# Altium footprint library SnapEDApcb.PcbLib: 1 footprints
Each footprint in its own frame and in the unit in brackets; x right, y up, seen from the top. Pads: shape width x height; smd on the part's side, far side on the other; paste and mask are expansions set on the pad; w line width, h text height; cw(c..) or ccw(c..) is an arc to the next point about the centre after c.
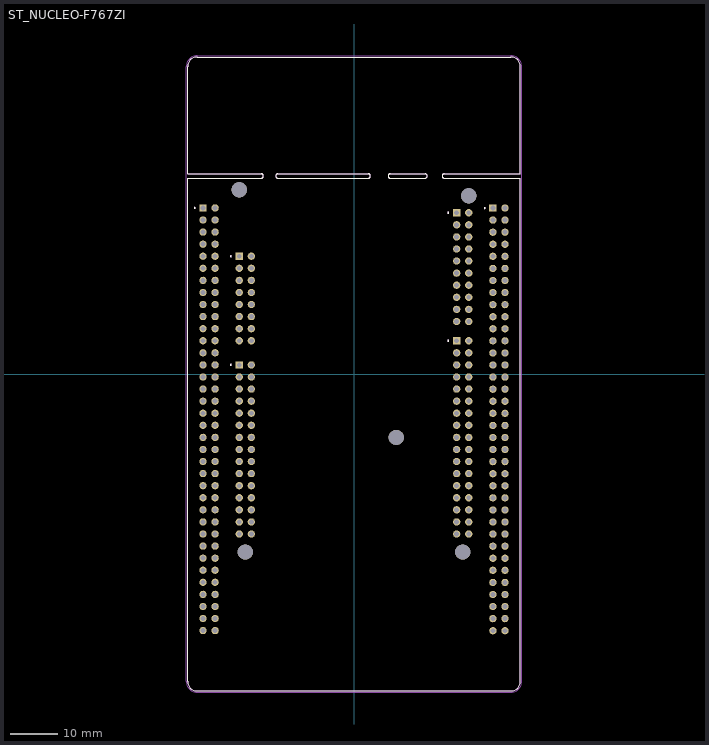
[diagram p0: the footprint, top view; thin cyan lines are the x and y axes]

## ST_NUCLEO-F767ZI [mm]
pads (249):
  rect 1.53x1.53 hole 1.02: CN7_1(21.59,33.914) CN8_1(-24.13,24.77) CN9_1(-24.13,1.91) CN10_1(21.59,6.99) CN11_1(-31.75,34.93) CN12_1(29.21,34.91)
  round 1.53 hole 1.02: CN7_2(24.13,33.914) CN7_3(21.59,31.374) CN7_4(24.13,31.374) CN7_5(21.59,28.834) CN7_6(24.13,28.834) CN7_7(21.59,26.294) CN7_8(24.13,26.294) CN7_9(21.59,23.754) CN7_10(24.13,23.754) CN7_11(21.59,21.214) CN7_12(24.13,21.214) CN7_13(21.59,18.674) CN7_14(24.13,18.674) CN7_15(21.59,16.134) CN7_16(24.13,16.134) CN7_17(21.59,13.594) CN7_18(24.13,13.594) CN7_19(21.59,11.054) CN7_20(24.13,11.054) CN8_2(-21.59,24.77) CN8_3(-24.13,22.23) CN8_4(-21.59,22.23) CN8_5(-24.13,19.69) CN8_6(-21.59,19.69) CN8_7(-24.13,17.15) CN8_8(-21.59,17.15) CN8_9(-24.13,14.61) CN8_10(-21.59,14.61) CN8_11(-24.13,12.07) CN8_12(-21.59,12.07) CN8_13(-24.13,9.53) CN8_14(-21.59,9.53) CN8_15(-24.13,6.99) CN8_16(-21.59,6.99) CN9_2(-21.59,1.91) CN9_3(-24.13,-0.63) CN9_4(-21.59,-0.63) CN9_5(-24.13,-3.17) CN9_6(-21.59,-3.17) CN9_7(-24.13,-5.71) CN9_8(-21.59,-5.71) CN9_9(-24.13,-8.25) CN9_10(-21.59,-8.25) CN9_11(-24.13,-10.79) CN9_12(-21.59,-10.79) CN9_13(-24.13,-13.33) CN9_14(-21.59,-13.33) CN9_15(-24.13,-15.87) CN9_16(-21.59,-15.87) CN9_17(-24.13,-18.41) CN9_18(-21.59,-18.41) CN9_19(-24.13,-20.95) CN9_20(-21.59,-20.95) CN9_21(-24.13,-23.49) CN9_22(-21.59,-23.49) CN9_23(-24.13,-26.03) CN9_24(-21.59,-26.03) CN9_25(-24.13,-28.57) CN9_26(-21.59,-28.57) CN9_27(-24.13,-31.11) CN9_28(-21.59,-31.11) CN9_29(-24.13,-33.65) CN9_30(-21.59,-33.65) CN10_2(24.13,6.99) CN10_3(21.59,4.45) CN10_4(24.13,4.45) CN10_5(21.59,1.91) CN10_6(24.13,1.91) CN10_7(21.59,-0.63) CN10_8(24.13,-0.63) CN10_9(21.59,-3.17) CN10_10(24.13,-3.17) CN10_11(21.59,-5.71) CN10_12(24.13,-5.71) CN10_13(21.59,-8.25) CN10_14(24.13,-8.25) CN10_15(21.59,-10.79) CN10_16(24.13,-10.79) CN10_17(21.59,-13.33) CN10_18(24.13,-13.33) CN10_19(21.59,-15.87) CN10_20(24.13,-15.87) CN10_21(21.59,-18.41) CN10_22(24.13,-18.41) CN10_23(21.59,-20.95) CN10_24(24.13,-20.95) CN10_25(21.59,-23.49) CN10_26(24.13,-23.49) CN10_27(21.59,-26.03) CN10_28(24.13,-26.03) CN10_29(21.59,-28.57) CN10_30(24.13,-28.57) CN10_31(21.59,-31.11) CN10_32(24.13,-31.11) CN10_33(21.59,-33.65) CN10_34(24.13,-33.65) CN11_2(-29.21,34.93) CN11_3(-31.75,32.39) CN11_4(-29.21,32.39) CN11_5(-31.75,29.85) CN11_6(-29.21,29.85) CN11_7(-31.75,27.31) CN11_8(-29.21,27.31) CN11_9(-31.75,24.77) CN11_10(-29.21,24.77) CN11_11(-31.75,22.23) CN11_12(-29.21,22.23) CN11_13(-31.75,19.69) CN11_14(-29.21,19.69) CN11_15(-31.75,17.15) CN11_16(-29.21,17.15) CN11_17(-31.75,14.61) CN11_18(-29.21,14.61) CN11_19(-31.75,12.07) CN11_20(-29.21,12.07) CN11_21(-31.75,9.53) CN11_22(-29.21,9.53) CN11_23(-31.75,6.99) CN11_24(-29.21,6.99) CN11_25(-31.75,4.45) CN11_26(-29.21,4.45) CN11_27(-31.75,1.91) CN11_28(-29.21,1.91) CN11_29(-31.75,-0.63) CN11_30(-29.21,-0.63) CN11_31(-31.75,-3.17) CN11_32(-29.21,-3.17) CN11_33(-31.75,-5.71) CN11_34(-29.21,-5.71) CN11_35(-31.75,-8.25) CN11_36(-29.21,-8.25) CN11_37(-31.75,-10.79) CN11_38(-29.21,-10.79) CN11_39(-31.75,-13.33) CN11_40(-29.21,-13.33) CN11_41(-31.75,-15.87) CN11_42(-29.21,-15.87) CN11_43(-31.75,-18.41) CN11_44(-29.21,-18.41) CN11_45(-31.75,-20.95) CN11_46(-29.21,-20.95) CN11_47(-31.75,-23.49) CN11_48(-29.21,-23.49) CN11_49(-31.75,-26.03) CN11_50(-29.21,-26.03) CN11_51(-31.75,-28.57) CN11_52(-29.21,-28.57) CN11_53(-31.75,-31.11) CN11_54(-29.21,-31.11) CN11_55(-31.75,-33.65) CN11_56(-29.21,-33.65) CN11_57(-31.75,-36.19) CN11_58(-29.21,-36.19) CN11_59(-31.75,-38.73) CN11_60(-29.21,-38.73) CN11_61(-31.75,-41.27) CN11_62(-29.21,-41.27) CN11_63(-31.75,-43.81) CN11_64(-29.21,-43.81) CN11_65(-31.75,-46.35) CN11_66(-29.21,-46.35) CN11_67(-31.75,-48.89) CN11_68(-29.21,-48.89) CN11_69(-31.75,-51.43) CN11_70(-29.21,-51.43) CN11_71(-31.75,-53.97) CN11_72(-29.21,-53.97) CN12_2(31.75,34.91) CN12_3(29.21,32.37) CN12_4(31.75,32.37) CN12_5(29.21,29.83) CN12_6(31.75,29.83) CN12_7(29.21,27.29) CN12_8(31.75,27.29) CN12_9(29.21,24.75) CN12_10(31.75,24.75) CN12_11(29.21,22.21) CN12_12(31.75,22.21) CN12_13(29.21,19.67) CN12_14(31.75,19.67) CN12_15(29.21,17.13) CN12_16(31.75,17.13) CN12_17(29.21,14.59) CN12_18(31.75,14.59) CN12_19(29.21,12.05) CN12_20(31.75,12.05) CN12_21(29.21,9.51) CN12_22(31.75,9.51) CN12_23(29.21,6.97) CN12_24(31.75,6.97) CN12_25(29.21,4.43) CN12_26(31.75,4.43) CN12_27(29.21,1.89) CN12_28(31.75,1.89) CN12_29(29.21,-0.65) CN12_30(31.75,-0.65) CN12_31(29.21,-3.19) CN12_32(31.75,-3.19) CN12_33(29.21,-5.73) CN12_34(31.75,-5.73) CN12_35(29.21,-8.27) CN12_36(31.75,-8.27) CN12_37(29.21,-10.81) CN12_38(31.75,-10.81) CN12_39(29.21,-13.35) CN12_40(31.75,-13.35) CN12_41(29.21,-15.89) CN12_42(31.75,-15.89) CN12_43(29.21,-18.43) CN12_44(31.75,-18.43) CN12_45(29.21,-20.97) CN12_46(31.75,-20.97) CN12_47(29.21,-23.51) CN12_48(31.75,-23.51) CN12_49(29.21,-26.05) CN12_50(31.75,-26.05) CN12_51(29.21,-28.59) CN12_52(31.75,-28.59) CN12_53(29.21,-31.13) CN12_54(31.75,-31.13) CN12_55(29.21,-33.67) CN12_56(31.75,-33.67) CN12_57(29.21,-36.21) CN12_58(31.75,-36.21) CN12_59(29.21,-38.75) CN12_60(31.75,-38.75) CN12_61(29.21,-41.29) CN12_62(31.75,-41.29) CN12_63(29.21,-43.83) CN12_64(31.75,-43.83) CN12_65(29.21,-46.37) CN12_66(31.75,-46.37) CN12_67(29.21,-48.91) CN12_68(31.75,-48.91) CN12_69(29.21,-51.45) CN12_70(31.75,-51.45) CN12_71(29.21,-53.99) CN12_72(31.75,-53.99)
  round 3.2 hole 3.2 unplated: ""(-24.13,38.74) ""(-22.86,-37.46) ""(8.89,-13.33) ""(22.86,-37.46) ""(24.13,37.47)
Top Overlay:
  circle w0.2: c-33.5,34.93 r0.1
  circle w0.2: c27.46,34.905 r0.1
  circle w0.2: c-25.88,24.77 r0.1
  circle w0.2: c-25.88,1.91 r0.1
  circle w0.2: c19.84,33.914 r0.1
  circle w0.2: c19.84,6.99 r0.1
  lines w0.127: -19.507,41.17 -35,41.17 -35,-64.67 ccw(c-33,-64.67) -33,-66.67 33,-66.67 ccw(c33,-64.67) 35,-64.67 35,41.17 18.999,41.17 ; -19.507,42.11 -35,42.11 -35,64.67 cw(c-33,64.67) -33,66.67 33,66.67 cw(c33,64.67) 35,64.67 35,42.11 18.999,42.11 ; -19.506,41.17 ccw(c-19.515,41.64) -19.506,42.11 ; -16.003,41.17 cw(c-15.995,41.64) -16.003,42.11 ; -16.002,41.17 2.997,41.17 ; -16.002,42.11 2.997,42.11 ; 2.998,41.17 ccw(c2.99,41.64) 2.998,42.11 ; 7.619,41.17 cw(c7.627,41.64) 7.619,42.11 ; 7.62,41.17 14.935,41.17 ; 7.62,42.11 14.935,42.11 ; 14.936,41.17 ccw(c14.928,41.64) 14.936,42.11 ; 18.998,41.17 cw(c19.007,41.64) 18.998,42.11
Mechanical 13:
  circle w0.2: c-33.5,34.93 r0.1
  circle w0.2: c27.46,34.905 r0.1
  circle w0.2: c-25.88,24.77 r0.1
  circle w0.2: c-25.88,1.91 r0.1
  circle w0.2: c19.84,33.914 r0.1
  circle w0.2: c19.84,6.99 r0.1
  lines w0.127: -19.507,41.17 -35,41.17 -35,-64.67 ccw(c-33,-64.67) -33,-66.67 33,-66.67 ccw(c33,-64.67) 35,-64.67 35,41.17 18.999,41.17 ; -19.507,42.11 -35,42.11 -35,64.67 cw(c-33,64.67) -33,66.67 33,66.67 cw(c33,64.67) 35,64.67 35,42.11 18.999,42.11 ; -19.506,41.17 ccw(c-19.515,41.64) -19.506,42.11 ; -16.003,41.17 cw(c-15.995,41.64) -16.003,42.11 ; -16.002,41.17 2.997,41.17 ; -16.002,42.11 2.997,42.11 ; 2.998,41.17 ccw(c2.99,41.64) 2.998,42.11 ; 7.619,41.17 cw(c7.627,41.64) 7.619,42.11 ; 7.62,41.17 14.935,41.17 ; 7.62,42.11 14.935,42.11 ; 14.936,41.17 ccw(c14.928,41.64) 14.936,42.11 ; 18.998,41.17 cw(c19.007,41.64) 18.998,42.11
Mechanical 15:
  lines w0.05: -35.25,-64.67 ccw(c-33,-64.67) -33,-66.92 33,-66.92 ccw(c33,-64.67) 35.25,-64.67 35.25,64.67 ccw(c33,64.67) 33,66.92 -33,66.92 ccw(c-33,64.67) -35.25,64.67 -35.25,-64.67